# Altium integrated library Schottky_Diodes.IntLib: 15 symbols
Pins are listed as number, name and electrical type; pins without a type are passive.

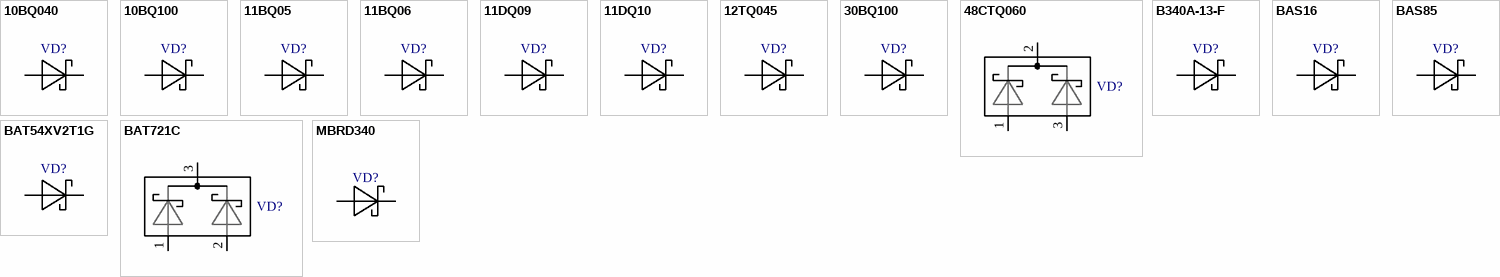
[diagram p0: symbols 10BQ040 to MBRD340]

## 10BQ040
designator VD?  (value not drawn)
Schottky Rectifier 1A
footprint SMB (DO-214AA) (Molded Diode, 2-Leads, Body 4,31x3,62mm, IPC Medium Density)
pins: A, K

## 10BQ100
designator VD?  (value not drawn)
Schottky Rectifier 1A
footprint SMB (DO-214AA) (Molded Diode, 2-Leads, Body 4,31x3,62mm, IPC Medium Density)
pins: A, K

## 11BQ05
designator VD?  (value not drawn)
Schottky Rectifier 1.1A 50V
footprint DO-41 12.7mm pitch
footprint DO-41 10mm pitch
footprint DO-41 vert 5.08mm pitch
pins: A, K

## 11BQ06
designator VD?  (value not drawn)
Schottky Rectifier 1.1A 60V
footprint DO-41 12.7mm pitch
footprint DO-41 10mm pitch
footprint DO-41 vert 5.08mm pitch
pins: A, K

## 11DQ09
designator VD?  (value not drawn)
Schottky Rectifier 1.1A 90V
footprint DO-41 12.7mm pitch
footprint DO-41 10mm pitch
footprint DO-41 vert 5.08mm pitch
pins: A, K

## 11DQ10
designator VD?  (value not drawn)
Schottky Rectifier 1.1A 100V
footprint DO-41 12.7mm pitch
footprint DO-41 10mm pitch
footprint DO-41 vert 5.08mm pitch
pins: A, K

## 12TQ045
designator VD?  (value not drawn)
High Performance Schottky Rectifier 15A 45V
footprint TO-220AC; pin to pad A>3 K>1
pins: A, K

## 30BQ100
designator VD?  (value not drawn)
Schottky Rectifier 3A
footprint SMC (DO-214AB) (Molded Diode, 2-Leads, Body 6,85x5,90mm, IPC Low Density)
pins: A, K

## 48CTQ060
designator VD?  (value not drawn)
Dual Common Cathode Schottky Rectifier 20A 60V
footprint TO-220 (TO-220HC)
pins: 1 A1, 2 K, 3 A2

## B340A-13-F
designator VD?  (value not drawn)
Schottky Rectifier 3A 40V
footprint SMA (DO-214AC) (Molded Diode, 2-Leads, Body 4,30x2,40mm, IPC Low Density)
pins: A, K

## BAS16
designator VD?  (value not drawn)
High-speed switching diode
footprint SOT-23 (3-Leads, Body 2,90x2,45mm, Pitch 0,95mm, IPC Low Density)
pins: 1 A, 3 K

## BAS85
designator VD?  (value not drawn)
Schottky Diode; 1Ccode: *; 1Cname: *; 1CfullName: *; 1Cgroup: *; 1Carticle: *; Manufacturer: *; Name: *; PartNumber: *; Case: *; ComponentLink1Description: DatasheetLink; ComponentLink1URL: *
footprint SOD-80 (MiniMELF DO-213AA SOD-80)
pins: A, K

## BAT54XV2T1G
designator VD?  (value not drawn)
Schottky Diode; Manufacturer: Onsemi; PartNumber: BAT54XV2T1G; 1Ccode: М00027847; 1Cname: BAT54XV2T1G  ONS диод; 1Cgroup: 01010101; 1Carticle: 16435; Name: Диод Шоттки BAT54XV2T1G; 1CfullName: BAT54XV2T1G  ONS диод; Case: SAOD-523; ComponentLink1Description: DatasheetLink; ComponentLink1URL: https://www.onsemi.com/pdf/datasheet/bat54xv2t1-d.pdf
footprint SOD-523 (SODFL, 2-Leads, Body 0,80x1,60mm, IPC Low Density)
pins: A, K

## BAT721C
designator VD?  (value not drawn)
Schottky Diodes Dual Common Cathode 200mA 40V
footprint SOT-23 (3-Leads, Body 2,90x2,45mm, Pitch 0,95mm, IPC Low Density)
pins: 1 A1, 2 A2, 3 K

## MBRD340
designator VD?  (value not drawn)
Schottky Barrier Rectifier 3A 40V
footprint DPAK (TO-252) (D-PAK, 3-Pads, Body 6,20x6,72mm (max), IPC Low Density); pin to pad A>1+3 K>4
pins: A, K